# Altium schematic symbol library CAP POL 680uF TH.Schlib: 1 symbol
Pins are listed as number, name and electrical type; pins without a type are passive.

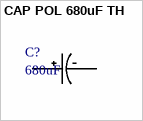
[diagram p0: symbol CAP POL 680uF TH]

## CAP POL 680uF TH
designator C?, comment 680uF
NICHICON   UHW1V681MPD6 ALUMINUM ELECTROLYTIC CAPACITOR, 680UF, 35V, 20%, RADIAL, FULL REEL
pins: NEG, POS